# EAGLE library part 613040143121 (library Board-to-Board (rev18a))
WR-PHD 2.54mm Angled Socket Header, 40 Pins =>Code : Con_BTB_SHD_2.54_1_THT_613040143121 <http://katalog.we-online.de/media/images/eican/Con_BTB_SHD_2.54_1_THT_6130xx143121_pf2.jpg> Details see: http://katalog.we-online.de/en/em/613_0xx_143_121 Created 2014-05-29, Karrer Zheng 2014 (C) Würth Elektronik
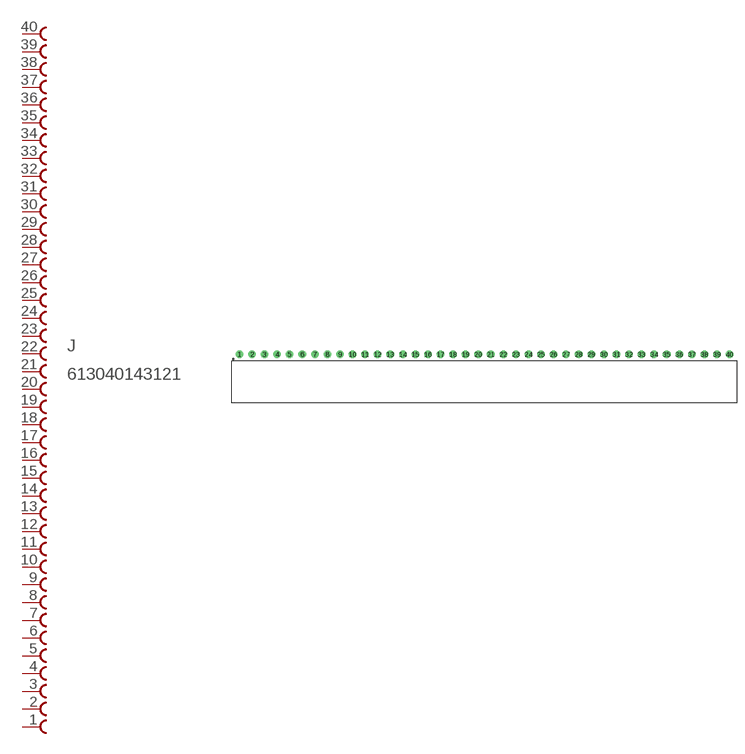
[diagram p144: symbol with the pads of 613040143121; footprint 613040143121]

Designator prefix J

## 613040143121  [613040143121]
1  40  pas
2  39  pas
3  38  pas
4  37  pas
5  36  pas
6  35  pas
7  34  pas
8  33  pas
9  32  pas
10  31  pas
11  30  pas
12  29  pas
13  28  pas
14  27  pas
15  26  pas
16  25  pas
17  24  pas
18  23  pas
19  22  pas
20  21  pas
21  20  pas
22  19  pas
23  18  pas
24  17  pas
25  16  pas
26  15  pas
27  14  pas
28  13  pas
29  12  pas
30  11  pas
31  10  pas
32  9  pas
33  8  pas
34  7  pas
35  6  pas
36  5  pas
37  4  pas
38  3  pas
39  2  pas
40  1  pas

## Footprint 613040143121 (pad centres in mm)
WR-PHD 2.54mm Angled Socket Header, 40 Pins
drill 1.02: 1 -49.53,0; 2 -46.99,0; 3 -44.45,0; 4 -41.91,0; 5 -39.37,0; 6 -36.83,0; 7 -34.29,0; 8 -31.75,0; 9 -29.21,0; 10 -26.67,0; 11 -24.13,0; 12 -21.59,0; 13 -19.05,0; 14 -16.51,0; 15 -13.97,0; 16 -11.43,0; 17 -8.89,0; 18 -6.35,0; 19 -3.81,0; 20 -1.27,0; 21 1.27,0; 22 3.81,0; 23 6.35,0; 24 8.89,0; 25 11.43,0; 26 13.97,0; 27 16.51,0; 28 19.05,0; 29 21.59,0; 30 24.13,0; 31 26.67,0; 32 29.21,0; 33 31.75,0; 34 34.29,0; 35 36.83,0; 36 39.37,0; 37 41.91,0; 38 44.45,0; 39 46.99,0; 40 49.53,0